# EAGLE library part BC-CLOONY (library bigclown)
Cloony, module, STM32L083CZT6, SPSGRF-868 Package Description: 22.86x22.86mm Mounting Technology: SMT Manufacturer Name: BigClown
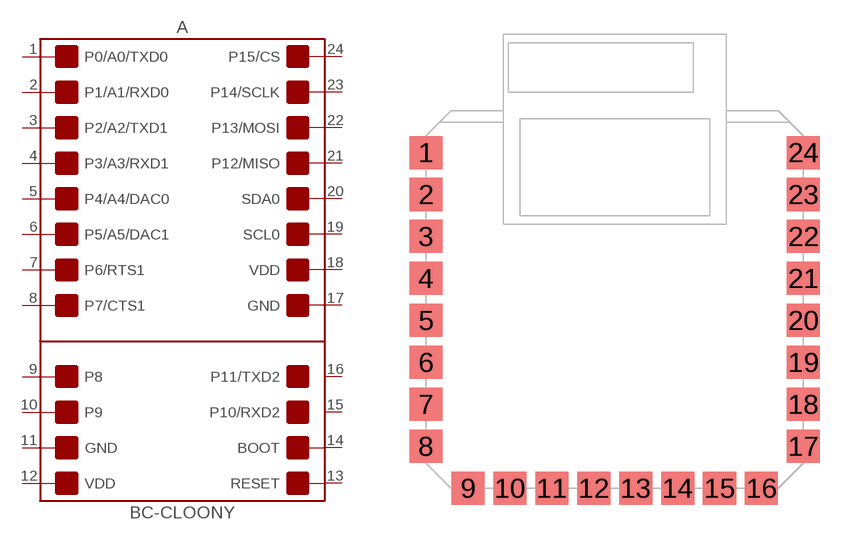
[diagram p1: symbol with the pads of BC-CLOONY; footprint BC-CLOONY]

Designator prefix A

## BC-CLOONY (BCPN: BC-CLOONY; VALUE: BC-CLOONY)  [BC-CLOONY]
1  P0/A0/TXD0  pas
2  P1/A1/RXD0  pas
3  P2/A2/TXD1  pas
4  P3/A3/RXD1  pas
5  P4/A4/DAC0  pas
6  P5/A5/DAC1  pas
7  P6/RTS1  pas
8  P7/CTS1  pas
9  P8  pas
10  P9  pas
11  GND1  pas
12  VDD1  pas
13  RESET  pas
14  BOOT  pas
15  P10/RXD2  pas
16  P11/TXD2  pas
17  GND2  pas
18  VDD2  pas
19  SCL0  pas
20  SDA0  pas
21  P12/MISO  pas
22  P13/MOSI  pas
23  P14/SCLK  pas
24  P15/CS  pas

## Footprint BC-CLOONY (pad centres in mm)
smd 2 x 2: 1 -11.43,8.89; 2 -11.43,6.35; 3 -11.43,3.81; 4 -11.43,1.27; 5 -11.43,-1.27; 6 -11.43,-3.81; 7 -11.43,-6.35; 8 -11.43,-8.89; 9 -8.89,-11.43; 10 -6.35,-11.43; 11 -3.81,-11.43; 12 -1.27,-11.43; 13 1.27,-11.43; 14 3.81,-11.43; 15 6.35,-11.43; 16 8.89,-11.43; 17 11.43,-8.89; 18 11.43,-6.35; 19 11.43,-3.81; 20 11.43,-1.27; 21 11.43,1.27; 22 11.43,3.81; 23 11.43,6.35; 24 11.43,8.89